# EAGLE library part SI1553CDL (library transistor-fet)
MOSFET N/P-CH 20V
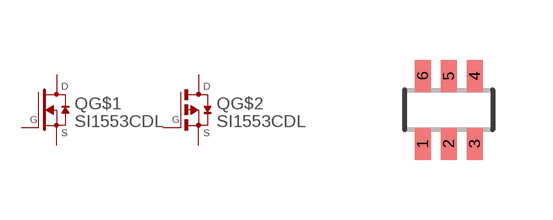
[diagram p13: symbol with the pads of SC70-6L; footprint SC70-6L]

Designator prefix Q; gates G$1=DMOS-N G$2=EMOS-PD

## SI1553CDL (DIGIKEY: SI1553CDL-T1-GE3CT-ND; MFR: Vishay; MPN: SI1553CDL-T1-GE3; P1I: o; VOLT: 20V)  [SC70-6L]
1  G$1:S  pas
2  G$1:G  pas
3  G$2:D  pas
4  G$2:S  pas
5  G$2:G  pas
6  G$1:D  pas

## Footprint SC70-6L (pad centres in mm)
SC-70 Package
smd 0.4 x 0.8: 1 -0.65,-0.85; 2 0,-0.85; 3 0.65,-0.85; 4 0.65,0.85; 5 0,0.85; 6 -0.65,0.85